# Altium schematic symbol library FPC.SchLib: 3 symbols
Pins are listed as number, name and electrical type; pins without a type are passive.

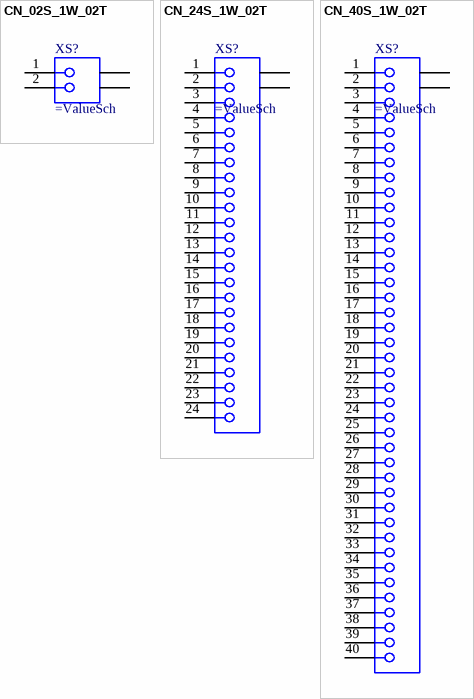
[diagram p0: symbols CN_02S_1W_02T to CN_40S_1W_02T]

## CN_02S_1W_02T
designator XS?
pins: 1, 2, SHLD, SHLD

## CN_24S_1W_02T
designator XS?
pins: 1, 2, 3, 4, 5, 6, 7, 8, 9, 10, 11, 12, 13, 14, 15, 16, 17, 18, 19, 20, 21, 22, 23, 24, SHLD, SHLD

## CN_40S_1W_02T
designator XS?
pins: 1, 2, 3, 4, 5, 6, 7, 8, 9, 10, 11, 12, 13, 14, 15, 16, 17, 18, 19, 20, 21, 22, 23, 24, 25, 26, 27, 28, 29, 30, 31, 32, 33, 34, 35, 36, 37, 38, 39, 40, SHLD, SHLD